# Altium schematic symbol library MC2016K25.0000C16ESH.SchLib: 1 symbol
Pins are listed as number, name and electrical type; pins without a type are passive.

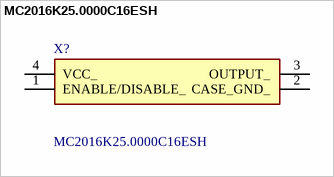
[diagram p0: symbol MC2016K25.0000C16ESH]

## MC2016K25.0000C16ESH
designator X?
XTAL OSC XO 25.0000MHZ CMOS SMD; Manufacturer_Name: KYOCERA; Geometry.Height: 0.8mm; Mouser Part Number: 581-MC2016K25.C16ESH; Mouser Price/Stock: https://www.mouser.co.uk/ProductDetail/KYOCERA-AVX/MC2016K25.0000C16ESH?qs=yTuLhIm%2Fv1ApwYpapkX4jg%3D%3D; Manufacturer_Part_Number: MC2016K25.0000C16ESH; Datasheet Link: https://media.digikey.com/pdf/Data%20Sheets/AVX%20PDFs/MC2016K25.0000C16ESH_Spec~.pdf
footprint MC2016K250000C16ESH
pins: 1 ENABLE/DISABLE_, 2 CASE_GND_, 3 OUTPUT_, 4 VCC_